# Altium schematic symbol library SCH-29227_Library.SchLib: 64 symbols
Pins are listed as number, name and electrical type; pins without a type are passive.

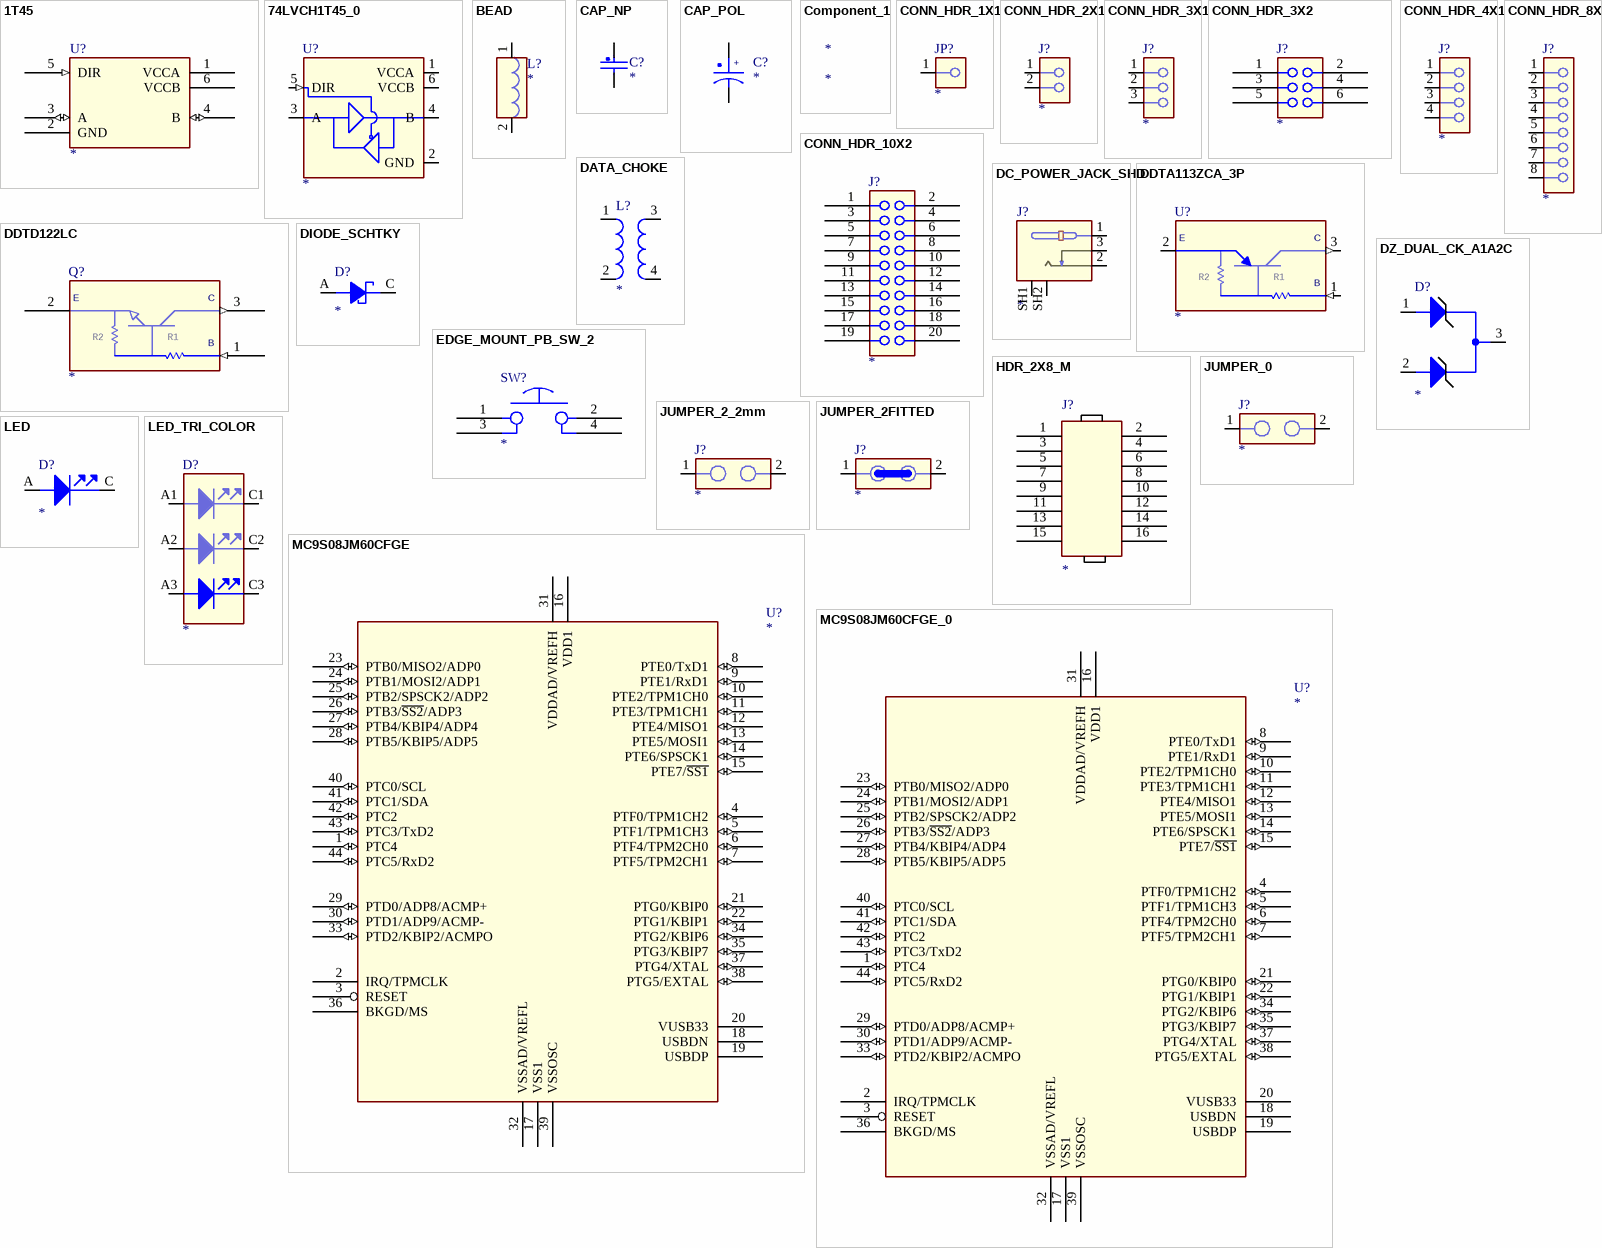
[diagram p0: symbols 1T45 to MC9S08JM60CFGE_0]

## 1T45
designator U?
CLASS: IC
pins: 1 VCCA (power), 2 GND (power), 3 A (io), 4 B (io), 5 DIR (in), 6 VCCB (power)

## 74LVCH1T45_0
designator U?
CLASS: IC
pins: 1 VCCA (power), 2 GND (power), 3 A (io), 4 B (io), 5 DIR (in), 6 VCCB (power)

## BEAD
designator L?
CLASS: DISCRETE
pins: 1, 2

## CAP_NP
designator C?
CLASS: DISCRETE
pins: 1, 2

## CAP_POL
designator C?
CLASS: DISCRETE
pins: 1, 2
text: +

## Component_1
designator *

## CONN_HDR_1X1
designator JP?
CLASS: IO
pins: 1

## CONN_HDR_2X1
designator J?
CLASS: IO
pins: 1, 2

## CONN_HDR_3X1
designator J?
CLASS: IO
pins: 1, 2, 3

## CONN_HDR_3X2
designator J?
CLASS: IO
pins: 1 A1, 2 B1, 3 A2, 4 B2, 5 A3, 6 B3

## CONN_HDR_4X1
designator J?
CLASS: IO
pins: 1, 2, 3, 4

## CONN_HDR_8X1
designator J?
CLASS: IO
pins: 1, 2, 3, 4, 5, 6, 7, 8

## CONN_HDR_10X2
designator J?
CLASS: IO
pins: 1, 2, 3, 4, 5, 6, 7, 8, 9, 10, 11, 12, 13, 14, 15, 16, 17, 18, 19, 20

## DATA_CHOKE
designator L?
CLASS: DISCRETE
pins: 1 IN1, 2 IN2, 3 OUT1, 4 OUT2

## DC_POWER_JACK_SHD
designator J?
CLASS: IO
pins: 1, 2, 3, SH1 SHIELD1, SH2 SHIELD2

## DDTA113ZCA_3P
designator U?
CLASS: IC
pins: 1 B (in), 2 E (power), 3 C (out)
text: R2; R1

## DDTD122LC
designator Q?
CLASS: IC
pins: 1 B (in), 2 E (power), 3 C (out)
text: R2; R1

## DIODE_SCHTKY
designator D?
CLASS: IC
pins: A, C

## DZ_DUAL_CK_A1A2C
designator D?
CLASS: IC
pins: 1 ANODE1, 2 ANODE2, 3 CATHODE

## EDGE_MOUNT_PB_SW_2
designator SW?
CLASS: IC
pins: 1, 2, 3, 4

## HDR_2X8_M
designator J?
CLASS: IO
pins: 1, 2, 3, 4, 5, 6, 7, 8, 9, 10, 11, 12, 13, 14, 15, 16

## JUMPER_0
designator J?
CLASS: IO
pins: 1, 2

## JUMPER_2_2mm
designator J?
CLASS: IO
pins: 1, 2

## JUMPER_2FITTED
designator J?
CLASS: IO
pins: 1, 2

## LED
designator D?
CLASS: IC
pins: A ANODE, C CATHODE

## LED_TRI_COLOR
designator D?
CLASS: IC
pins: A1 ANODE1, A2 ANODE2, A3 ANODE3, C1 CATHODE1, C2 CATHODE2, C3 CATHODE3

## MC9S08JM60CFGE
designator U?
CLASS: IC
pins: 1 PTC4 (io), 2 IRQ/TPMCLK, 3 RESET, 4 PTF0/TPM1CH2 (io), 5 PTF1/TPM1CH3 (io), 6 PTF4/TPM2CH0 (io), 7 PTF5/TPM2CH1 (io), 8 PTE0/TxD1 (io), 9 PTE1/RxD1 (io), 10 PTE2/TPM1CH0 (io), 11 PTE3/TPM1CH1 (io), 12 PTE4/MISO1 (io), 13 PTE5/MOSI1 (io), 14 PTE6/SPSCK1 (io), 15 PTE7/~{SS1} (io), 16 VDD1 (power), 17 VSS1 (power), 18 USBDN (power), 19 USBDP (power), 20 VUSB33 (power), 21 PTG0/KBIP0 (io), 22 PTG1/KBIP1 (io), 23 PTB0/MISO2/ADP0 (io), 24 PTB1/MOSI2/ADP1 (io), 25 PTB2/SPSCK2/ADP2 (io), 26 PTB3/~{SS2}/ADP3 (io), 27 PTB4/KBIP4/ADP4 (io), 28 PTB5/KBIP5/ADP5 (io), 29 PTD0/ADP8/ACMP+ (io), 30 PTD1/ADP9/ACMP- (io), 31 VDDAD/VREFH (power), 32 VSSAD/VREFL (power), 33 PTD2/KBIP2/ACMPO (io), 34 PTG2/KBIP6 (io), 35 PTG3/KBIP7 (io), 36 BKGD/MS, 37 PTG4/XTAL (io), 38 PTG5/EXTAL (io), 39 VSSOSC (power), 40 PTC0/SCL (io), 41 PTC1/SDA (io), 42 PTC2 (io), 43 PTC3/TxD2 (io), 44 PTC5/RxD2 (io)

## MC9S08JM60CFGE_0
designator U?
CLASS: IC
pins: 1 PTC4 (io), 2 IRQ/TPMCLK, 3 RESET, 4 PTF0/TPM1CH2 (io), 5 PTF1/TPM1CH3 (io), 6 PTF4/TPM2CH0 (io), 7 PTF5/TPM2CH1 (io), 8 PTE0/TxD1 (io), 9 PTE1/RxD1 (io), 10 PTE2/TPM1CH0 (io), 11 PTE3/TPM1CH1 (io), 12 PTE4/MISO1 (io), 13 PTE5/MOSI1 (io), 14 PTE6/SPSCK1 (io), 15 PTE7/~{SS1} (io), 16 VDD1 (power), 17 VSS1 (power), 18 USBDN (power), 19 USBDP (power), 20 VUSB33 (power), 21 PTG0/KBIP0 (io), 22 PTG1/KBIP1 (io), 23 PTB0/MISO2/ADP0 (io), 24 PTB1/MOSI2/ADP1 (io), 25 PTB2/SPSCK2/ADP2 (io), 26 PTB3/~{SS2}/ADP3 (io), 27 PTB4/KBIP4/ADP4 (io), 28 PTB5/KBIP5/ADP5 (io), 29 PTD0/ADP8/ACMP+ (io), 30 PTD1/ADP9/ACMP- (io), 31 VDDAD/VREFH (power), 32 VSSAD/VREFL (power), 33 PTD2/KBIP2/ACMPO (io), 34 PTG2/KBIP6 (io), 35 PTG3/KBIP7 (io), 36 BKGD/MS, 37 PTG4/XTAL (io), 38 PTG5/EXTAL (io), 39 VSSOSC (power), 40 PTC0/SCL (io), 41 PTC1/SDA (io), 42 PTC2 (io), 43 PTC3/TxD2 (io), 44 PTC5/RxD2 (io)

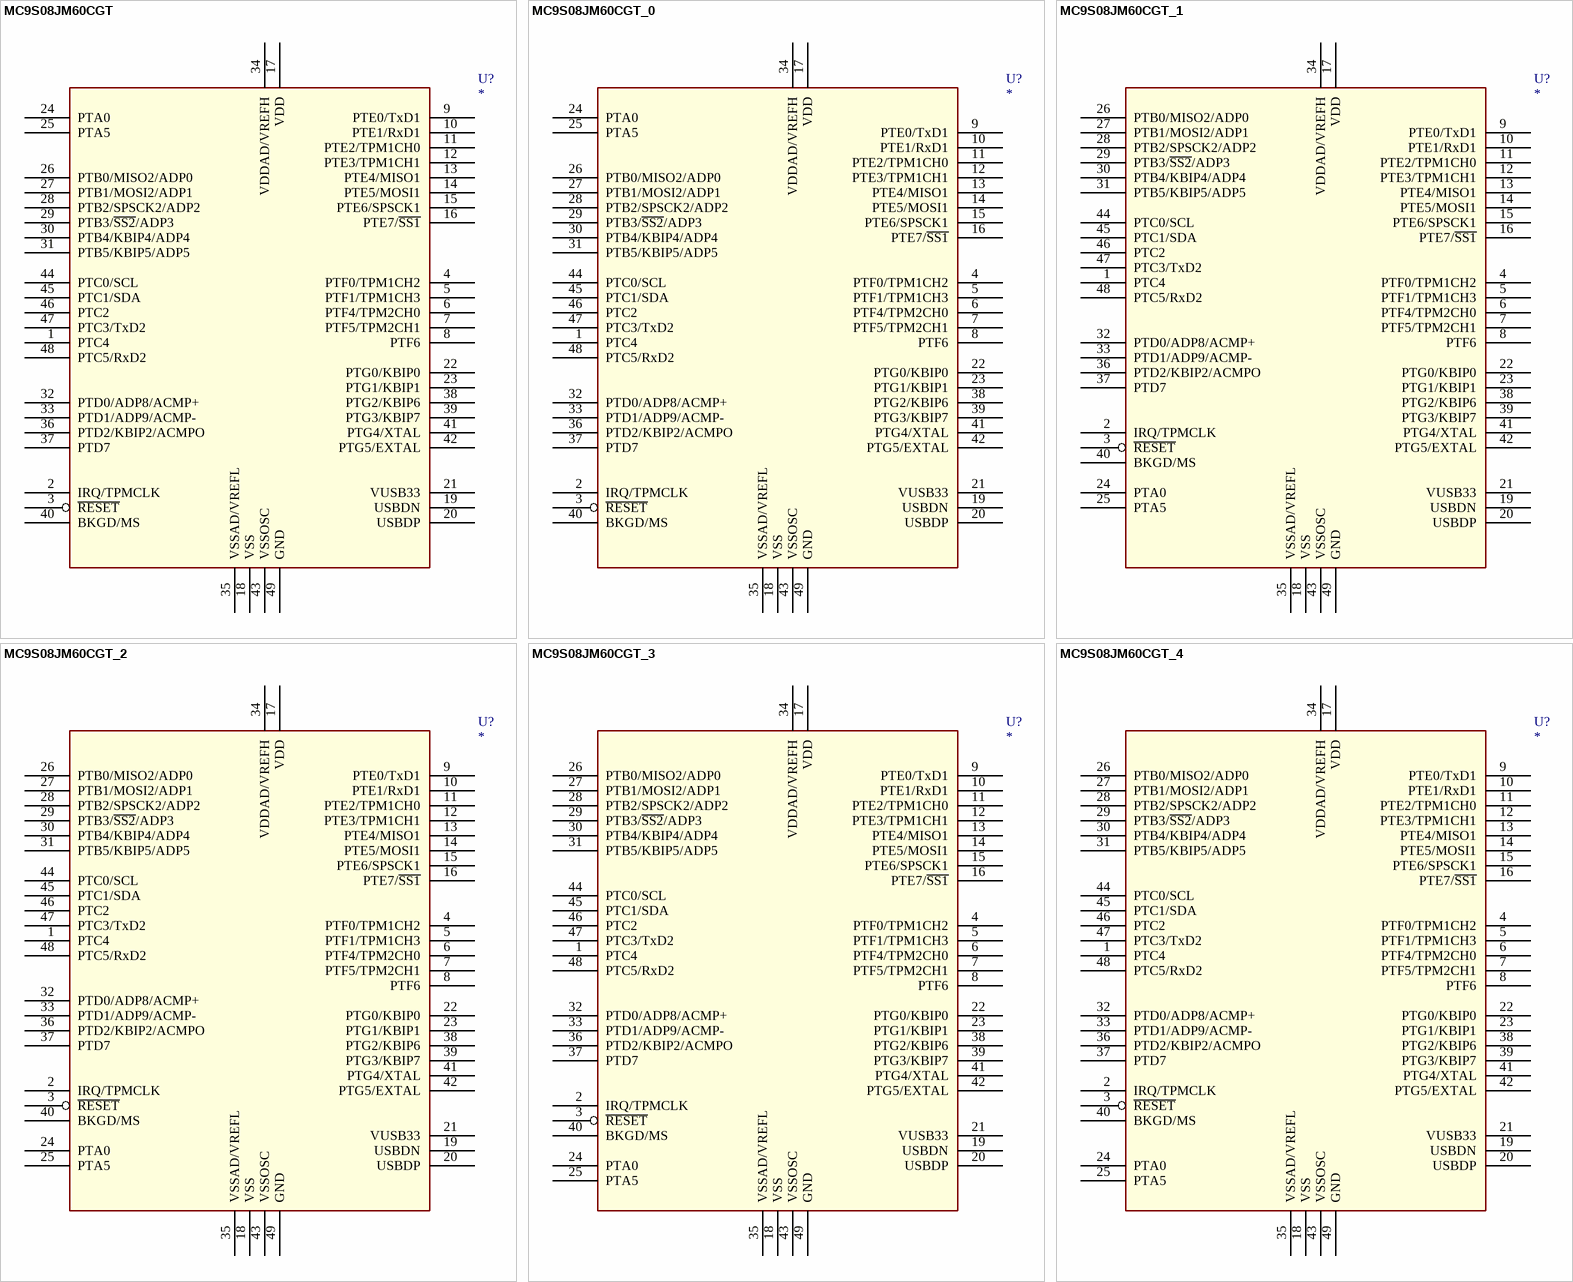
[diagram p1: symbols MC9S08JM60CGT to MC9S08JM60CGT_4]

## MC9S08JM60CGT
designator U?
CLASS: IC
pins: 1 PTC4, 2 IRQ/TPMCLK, 3 ~{RESET}, 4 PTF0/TPM1CH2, 5 PTF1/TPM1CH3, 6 PTF4/TPM2CH0, 7 PTF5/TPM2CH1, 8 PTF6, 9 PTE0/TxD1, 10 PTE1/RxD1, 11 PTE2/TPM1CH0, 12 PTE3/TPM1CH1, 13 PTE4/MISO1, 14 PTE5/MOSI1, 15 PTE6/SPSCK1, 16 PTE7/~{SS1}, 17 VDD (power), 18 VSS (power), 19 USBDN, 20 USBDP, 21 VUSB33, 22 PTG0/KBIP0, 23 PTG1/KBIP1, 24 PTA0, 25 PTA5, 26 PTB0/MISO2/ADP0, 27 PTB1/MOSI2/ADP1, 28 PTB2/SPSCK2/ADP2, 29 PTB3/~{SS2}/ADP3, 30 PTB4/KBIP4/ADP4, 31 PTB5/KBIP5/ADP5, 32 PTD0/ADP8/ACMP+, 33 PTD1/ADP9/ACMP-, 34 VDDAD/VREFH (power), 35 VSSAD/VREFL (power), 36 PTD2/KBIP2/ACMPO, 37 PTD7, 38 PTG2/KBIP6, 39 PTG3/KBIP7, 40 BKGD/MS, 41 PTG4/XTAL, 42 PTG5/EXTAL, 43 VSSOSC (power), 44 PTC0/SCL, 45 PTC1/SDA, 46 PTC2, 47 PTC3/TxD2, 48 PTC5/RxD2, 49 GND (power)

## MC9S08JM60CGT_0
designator U?
CLASS: IC
pins: 1 PTC4, 2 IRQ/TPMCLK, 3 ~{RESET}, 4 PTF0/TPM1CH2, 5 PTF1/TPM1CH3, 6 PTF4/TPM2CH0, 7 PTF5/TPM2CH1, 8 PTF6, 9 PTE0/TxD1, 10 PTE1/RxD1, 11 PTE2/TPM1CH0, 12 PTE3/TPM1CH1, 13 PTE4/MISO1, 14 PTE5/MOSI1, 15 PTE6/SPSCK1, 16 PTE7/~{SS1}, 17 VDD (power), 18 VSS (power), 19 USBDN, 20 USBDP, 21 VUSB33, 22 PTG0/KBIP0, 23 PTG1/KBIP1, 24 PTA0, 25 PTA5, 26 PTB0/MISO2/ADP0, 27 PTB1/MOSI2/ADP1, 28 PTB2/SPSCK2/ADP2, 29 PTB3/~{SS2}/ADP3, 30 PTB4/KBIP4/ADP4, 31 PTB5/KBIP5/ADP5, 32 PTD0/ADP8/ACMP+, 33 PTD1/ADP9/ACMP-, 34 VDDAD/VREFH (power), 35 VSSAD/VREFL (power), 36 PTD2/KBIP2/ACMPO, 37 PTD7, 38 PTG2/KBIP6, 39 PTG3/KBIP7, 40 BKGD/MS, 41 PTG4/XTAL, 42 PTG5/EXTAL, 43 VSSOSC (power), 44 PTC0/SCL, 45 PTC1/SDA, 46 PTC2, 47 PTC3/TxD2, 48 PTC5/RxD2, 49 GND (power)

## MC9S08JM60CGT_1
designator U?
CLASS: IC
pins: 1 PTC4, 2 IRQ/TPMCLK, 3 ~{RESET}, 4 PTF0/TPM1CH2, 5 PTF1/TPM1CH3, 6 PTF4/TPM2CH0, 7 PTF5/TPM2CH1, 8 PTF6, 9 PTE0/TxD1, 10 PTE1/RxD1, 11 PTE2/TPM1CH0, 12 PTE3/TPM1CH1, 13 PTE4/MISO1, 14 PTE5/MOSI1, 15 PTE6/SPSCK1, 16 PTE7/~{SS1}, 17 VDD (power), 18 VSS (power), 19 USBDN, 20 USBDP, 21 VUSB33, 22 PTG0/KBIP0, 23 PTG1/KBIP1, 24 PTA0, 25 PTA5, 26 PTB0/MISO2/ADP0, 27 PTB1/MOSI2/ADP1, 28 PTB2/SPSCK2/ADP2, 29 PTB3/~{SS2}/ADP3, 30 PTB4/KBIP4/ADP4, 31 PTB5/KBIP5/ADP5, 32 PTD0/ADP8/ACMP+, 33 PTD1/ADP9/ACMP-, 34 VDDAD/VREFH (power), 35 VSSAD/VREFL (power), 36 PTD2/KBIP2/ACMPO, 37 PTD7, 38 PTG2/KBIP6, 39 PTG3/KBIP7, 40 BKGD/MS, 41 PTG4/XTAL, 42 PTG5/EXTAL, 43 VSSOSC (power), 44 PTC0/SCL, 45 PTC1/SDA, 46 PTC2, 47 PTC3/TxD2, 48 PTC5/RxD2, 49 GND (power)

## MC9S08JM60CGT_2
designator U?
CLASS: IC
pins: 1 PTC4, 2 IRQ/TPMCLK, 3 ~{RESET}, 4 PTF0/TPM1CH2, 5 PTF1/TPM1CH3, 6 PTF4/TPM2CH0, 7 PTF5/TPM2CH1, 8 PTF6, 9 PTE0/TxD1, 10 PTE1/RxD1, 11 PTE2/TPM1CH0, 12 PTE3/TPM1CH1, 13 PTE4/MISO1, 14 PTE5/MOSI1, 15 PTE6/SPSCK1, 16 PTE7/~{SS1}, 17 VDD (power), 18 VSS (power), 19 USBDN, 20 USBDP, 21 VUSB33, 22 PTG0/KBIP0, 23 PTG1/KBIP1, 24 PTA0, 25 PTA5, 26 PTB0/MISO2/ADP0, 27 PTB1/MOSI2/ADP1, 28 PTB2/SPSCK2/ADP2, 29 PTB3/~{SS2}/ADP3, 30 PTB4/KBIP4/ADP4, 31 PTB5/KBIP5/ADP5, 32 PTD0/ADP8/ACMP+, 33 PTD1/ADP9/ACMP-, 34 VDDAD/VREFH (power), 35 VSSAD/VREFL (power), 36 PTD2/KBIP2/ACMPO, 37 PTD7, 38 PTG2/KBIP6, 39 PTG3/KBIP7, 40 BKGD/MS, 41 PTG4/XTAL, 42 PTG5/EXTAL, 43 VSSOSC (power), 44 PTC0/SCL, 45 PTC1/SDA, 46 PTC2, 47 PTC3/TxD2, 48 PTC5/RxD2, 49 GND (power)

## MC9S08JM60CGT_3
designator U?
CLASS: IC
pins: 1 PTC4, 2 IRQ/TPMCLK, 3 ~{RESET}, 4 PTF0/TPM1CH2, 5 PTF1/TPM1CH3, 6 PTF4/TPM2CH0, 7 PTF5/TPM2CH1, 8 PTF6, 9 PTE0/TxD1, 10 PTE1/RxD1, 11 PTE2/TPM1CH0, 12 PTE3/TPM1CH1, 13 PTE4/MISO1, 14 PTE5/MOSI1, 15 PTE6/SPSCK1, 16 PTE7/~{SS1}, 17 VDD (power), 18 VSS (power), 19 USBDN, 20 USBDP, 21 VUSB33, 22 PTG0/KBIP0, 23 PTG1/KBIP1, 24 PTA0, 25 PTA5, 26 PTB0/MISO2/ADP0, 27 PTB1/MOSI2/ADP1, 28 PTB2/SPSCK2/ADP2, 29 PTB3/~{SS2}/ADP3, 30 PTB4/KBIP4/ADP4, 31 PTB5/KBIP5/ADP5, 32 PTD0/ADP8/ACMP+, 33 PTD1/ADP9/ACMP-, 34 VDDAD/VREFH (power), 35 VSSAD/VREFL (power), 36 PTD2/KBIP2/ACMPO, 37 PTD7, 38 PTG2/KBIP6, 39 PTG3/KBIP7, 40 BKGD/MS, 41 PTG4/XTAL, 42 PTG5/EXTAL, 43 VSSOSC (power), 44 PTC0/SCL, 45 PTC1/SDA, 46 PTC2, 47 PTC3/TxD2, 48 PTC5/RxD2, 49 GND (power)

## MC9S08JM60CGT_4
designator U?
CLASS: IC
pins: 1 PTC4, 2 IRQ/TPMCLK, 3 ~{RESET}, 4 PTF0/TPM1CH2, 5 PTF1/TPM1CH3, 6 PTF4/TPM2CH0, 7 PTF5/TPM2CH1, 8 PTF6, 9 PTE0/TxD1, 10 PTE1/RxD1, 11 PTE2/TPM1CH0, 12 PTE3/TPM1CH1, 13 PTE4/MISO1, 14 PTE5/MOSI1, 15 PTE6/SPSCK1, 16 PTE7/~{SS1}, 17 VDD (power), 18 VSS (power), 19 USBDN, 20 USBDP, 21 VUSB33, 22 PTG0/KBIP0, 23 PTG1/KBIP1, 24 PTA0, 25 PTA5, 26 PTB0/MISO2/ADP0, 27 PTB1/MOSI2/ADP1, 28 PTB2/SPSCK2/ADP2, 29 PTB3/~{SS2}/ADP3, 30 PTB4/KBIP4/ADP4, 31 PTB5/KBIP5/ADP5, 32 PTD0/ADP8/ACMP+, 33 PTD1/ADP9/ACMP-, 34 VDDAD/VREFH (power), 35 VSSAD/VREFL (power), 36 PTD2/KBIP2/ACMPO, 37 PTD7, 38 PTG2/KBIP6, 39 PTG3/KBIP7, 40 BKGD/MS, 41 PTG4/XTAL, 42 PTG5/EXTAL, 43 VSSOSC (power), 44 PTC0/SCL, 45 PTC1/SDA, 46 PTC2, 47 PTC3/TxD2, 48 PTC5/RxD2, 49 GND (power)

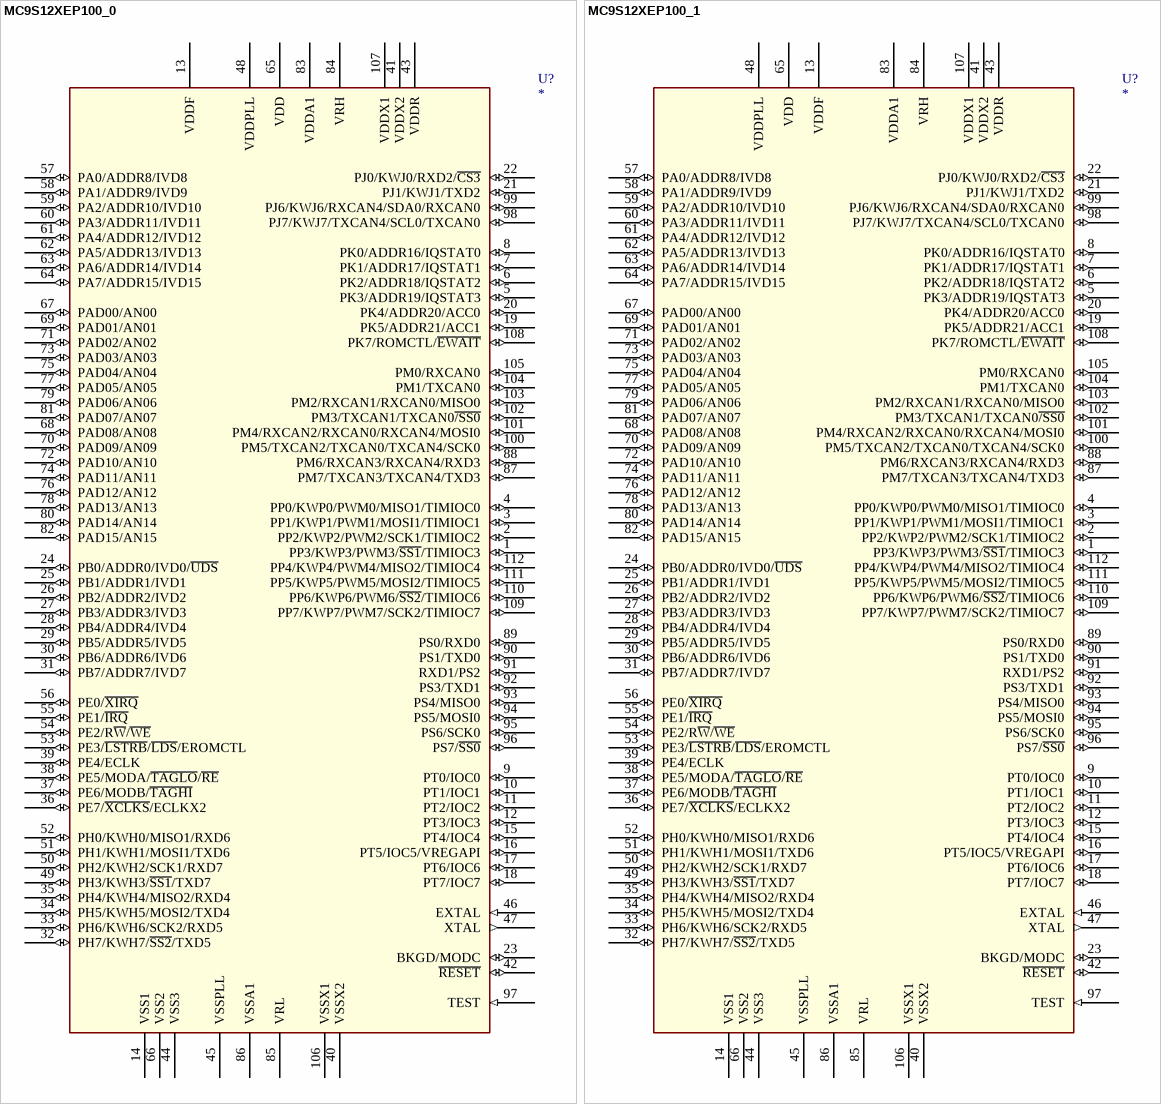
[diagram p2: symbols MC9S12XEP100_0 to MC9S12XEP100_1]

## MC9S12XEP100_0
designator U?
CLASS: IC
pins: 1 PP3/KWP3/PWM3/~{SS1}/TIMIOC3 (io), 2 PP2/KWP2/PWM2/SCK1/TIMIOC2 (io), 3 PP1/KWP1/PWM1/MOSI1/TIMIOC1 (io), 4 PP0/KWP0/PWM0/MISO1/TIMIOC0 (io), 5 PK3/ADDR19/IQSTAT3 (io), 6 PK2/ADDR18/IQSTAT2 (io), 7 PK1/ADDR17/IQSTAT1 (io), 8 PK0/ADDR16/IQSTAT0 (io), 9 PT0/IOC0 (io), 10 PT1/IOC1 (io), 11 PT2/IOC2 (io), 12 PT3/IOC3 (io), 13 VDDF (power), 14 VSS1 (power), 15 PT4/IOC4 (io), 16 PT5/IOC5/VREGAPI (io), 17 PT6/IOC6 (io), 18 PT7/IOC7 (io), 19 PK5/ADDR21/ACC1 (io), 20 PK4/ADDR20/ACC0 (io), 21 PJ1/KWJ1/TXD2 (io), 22 PJ0/KWJ0/RXD2/~{CS3} (io), 23 BKGD/MODC (io), 24 PB0/ADDR0/IVD0/~{UDS} (io), 25 PB1/ADDR1/IVD1 (io), 26 PB2/ADDR2/IVD2 (io), 27 PB3/ADDR3/IVD3 (io), 28 PB4/ADDR4/IVD4 (io), 29 PB5/ADDR5/IVD5 (io), 30 PB6/ADDR6/IVD6 (io), 31 PB7/ADDR7/IVD7 (io), 32 PH7/KWH7/~{SS2}/TXD5 (io), 33 PH6/KWH6/SCK2/RXD5 (io), 34 PH5/KWH5/MOSI2/TXD4 (io), 35 PH4/KWH4/MISO2/RXD4 (io), 36 PE7/~{XCLKS}/ECLKX2 (io), 37 PE6/MODB/~{TAGHI} (io), 38 PE5/MODA/~{TAGLO}/~{RE} (io), 39 PE4/ECLK (io), 40 VSSX2 (power), 41 VDDX2 (power), 42 ~{RESET} (io), 43 VDDR (power), 44 VSS3 (power), 45 VSSPLL (power), 46 EXTAL (in), 47 XTAL (out), 48 VDDPLL (power), 49 PH3/KWH3/~{SS1}/TXD7 (io), 50 PH2/KWH2/SCK1/RXD7 (io), 51 PH1/KWH1/MOSI1/TXD6 (io), 52 PH0/KWH0/MISO1/RXD6 (io), 53 PE3/~{LSTRB}/~{LDS}/EROMCTL (io), 54 PE2/R~{W}/~{WE} (io), 55 PE1/~{IRQ} (io), 56 PE0/~{XIRQ} (io), 57 PA0/ADDR8/IVD8 (io), 58 PA1/ADDR9/IVD9 (io), 59 PA2/ADDR10/IVD10 (io), 60 PA3/ADDR11/IVD11 (io), 61 PA4/ADDR12/IVD12 (io), 62 PA5/ADDR13/IVD13 (io), 63 PA6/ADDR14/IVD14 (io), 64 PA7/ADDR15/IVD15 (io), 65 VDD (power), 66 VSS2 (power), 67 PAD00/AN00 (io), 68 PAD08/AN08 (io), 69 PAD01/AN01 (io), 70 PAD09/AN09 (io), 71 PAD02/AN02 (io), 72 PAD10/AN10 (io), 73 PAD03/AN03 (io), 74 PAD11/AN11 (io), 75 PAD04/AN04 (io), 76 PAD12/AN12 (io), 77 PAD05/AN05 (io), 78 PAD13/AN13 (io), 79 PAD06/AN06 (io), 80 PAD14/AN14 (io), 81 PAD07/AN07 (io), 82 PAD15/AN15 (io), 83 VDDA1 (power), 84 VRH (power), 85 VRL (power), 86 VSSA1 (power), 87 PM7/TXCAN3/TXCAN4/TXD3 (io), 88 PM6/RXCAN3/RXCAN4/RXD3 (io), 89 PS0/RXD0 (io), 90 PS1/TXD0 (io), 91 RXD1/PS2 (io), 92 PS3/TXD1 (io), 93 PS4/MISO0 (io), 94 PS5/MOSI0 (io), 95 PS6/SCK0 (io), 96 PS7/~{SS0} (io), 97 TEST (in), 98 PJ7/KWJ7/TXCAN4/SCL0/TXCAN0 (io), 99 PJ6/KWJ6/RXCAN4/SDA0/RXCAN0 (io), 100 PM5/TXCAN2/TXCAN0/TXCAN4/SCK0 (io), 101 PM4/RXCAN2/RXCAN0/RXCAN4/MOSI0 (io), 102 PM3/TXCAN1/TXCAN0~{/SS0} (io), 103 PM2/RXCAN1/RXCAN0/MISO0 (io), 104 PM1/TXCAN0 (io), 105 PM0/RXCAN0 (io), 106 VSSX1 (power), 107 VDDX1 (power), 108 PK7/ROMCTL/~{EWAIT} (io), 109 PP7/KWP7/PWM7/SCK2/TIMIOC7 (io), 110 PP6/KWP6/PWM6/~{SS2}/TIMIOC6 (io), 111 PP5/KWP5/PWM5/MOSI2/TIMIOC5 (io), 112 PP4/KWP4/PWM4/MISO2/TIMIOC4 (io)

## MC9S12XEP100_1
designator U?
CLASS: IC
pins: 1 PP3/KWP3/PWM3/~{SS1}/TIMIOC3 (io), 2 PP2/KWP2/PWM2/SCK1/TIMIOC2 (io), 3 PP1/KWP1/PWM1/MOSI1/TIMIOC1 (io), 4 PP0/KWP0/PWM0/MISO1/TIMIOC0 (io), 5 PK3/ADDR19/IQSTAT3 (io), 6 PK2/ADDR18/IQSTAT2 (io), 7 PK1/ADDR17/IQSTAT1 (io), 8 PK0/ADDR16/IQSTAT0 (io), 9 PT0/IOC0 (io), 10 PT1/IOC1 (io), 11 PT2/IOC2 (io), 12 PT3/IOC3 (io), 13 VDDF (power), 14 VSS1 (power), 15 PT4/IOC4 (io), 16 PT5/IOC5/VREGAPI (io), 17 PT6/IOC6 (io), 18 PT7/IOC7 (io), 19 PK5/ADDR21/ACC1 (io), 20 PK4/ADDR20/ACC0 (io), 21 PJ1/KWJ1/TXD2 (io), 22 PJ0/KWJ0/RXD2/~{CS3} (io), 23 BKGD/MODC (io), 24 PB0/ADDR0/IVD0/~{UDS} (io), 25 PB1/ADDR1/IVD1 (io), 26 PB2/ADDR2/IVD2 (io), 27 PB3/ADDR3/IVD3 (io), 28 PB4/ADDR4/IVD4 (io), 29 PB5/ADDR5/IVD5 (io), 30 PB6/ADDR6/IVD6 (io), 31 PB7/ADDR7/IVD7 (io), 32 PH7/KWH7/~{SS2}/TXD5 (io), 33 PH6/KWH6/SCK2/RXD5 (io), 34 PH5/KWH5/MOSI2/TXD4 (io), 35 PH4/KWH4/MISO2/RXD4 (io), 36 PE7/~{XCLKS}/ECLKX2 (io), 37 PE6/MODB/~{TAGHI} (io), 38 PE5/MODA/~{TAGLO}/~{RE} (io), 39 PE4/ECLK (io), 40 VSSX2 (power), 41 VDDX2 (power), 42 ~{RESET} (io), 43 VDDR (power), 44 VSS3 (power), 45 VSSPLL (power), 46 EXTAL (in), 47 XTAL (out), 48 VDDPLL (power), 49 PH3/KWH3/~{SS1}/TXD7 (io), 50 PH2/KWH2/SCK1/RXD7 (io), 51 PH1/KWH1/MOSI1/TXD6 (io), 52 PH0/KWH0/MISO1/RXD6 (io), 53 PE3/~{LSTRB}/~{LDS}/EROMCTL (io), 54 PE2/R~{W}/~{WE} (io), 55 PE1/~{IRQ} (io), 56 PE0/~{XIRQ} (io), 57 PA0/ADDR8/IVD8 (io), 58 PA1/ADDR9/IVD9 (io), 59 PA2/ADDR10/IVD10 (io), 60 PA3/ADDR11/IVD11 (io), 61 PA4/ADDR12/IVD12 (io), 62 PA5/ADDR13/IVD13 (io), 63 PA6/ADDR14/IVD14 (io), 64 PA7/ADDR15/IVD15 (io), 65 VDD (power), 66 VSS2 (power), 67 PAD00/AN00 (io), 68 PAD08/AN08 (io), 69 PAD01/AN01 (io), 70 PAD09/AN09 (io), 71 PAD02/AN02 (io), 72 PAD10/AN10 (io), 73 PAD03/AN03 (io), 74 PAD11/AN11 (io), 75 PAD04/AN04 (io), 76 PAD12/AN12 (io), 77 PAD05/AN05 (io), 78 PAD13/AN13 (io), 79 PAD06/AN06 (io), 80 PAD14/AN14 (io), 81 PAD07/AN07 (io), 82 PAD15/AN15 (io), 83 VDDA1 (power), 84 VRH (power), 85 VRL (power), 86 VSSA1 (power), 87 PM7/TXCAN3/TXCAN4/TXD3 (io), 88 PM6/RXCAN3/RXCAN4/RXD3 (io), 89 PS0/RXD0 (io), 90 PS1/TXD0 (io), 91 RXD1/PS2 (io), 92 PS3/TXD1 (io), 93 PS4/MISO0 (io), 94 PS5/MOSI0 (io), 95 PS6/SCK0 (io), 96 PS7/~{SS0} (io), 97 TEST (in), 98 PJ7/KWJ7/TXCAN4/SCL0/TXCAN0 (io), 99 PJ6/KWJ6/RXCAN4/SDA0/RXCAN0 (io), 100 PM5/TXCAN2/TXCAN0/TXCAN4/SCK0 (io), 101 PM4/RXCAN2/RXCAN0/RXCAN4/MOSI0 (io), 102 PM3/TXCAN1/TXCAN0~{/SS0} (io), 103 PM2/RXCAN1/RXCAN0/MISO0 (io), 104 PM1/TXCAN0 (io), 105 PM0/RXCAN0 (io), 106 VSSX1 (power), 107 VDDX1 (power), 108 PK7/ROMCTL/~{EWAIT} (io), 109 PP7/KWP7/PWM7/SCK2/TIMIOC7 (io), 110 PP6/KWP6/PWM6/~{SS2}/TIMIOC6 (io), 111 PP5/KWP5/PWM5/MOSI2/TIMIOC5 (io), 112 PP4/KWP4/PWM4/MISO2/TIMIOC4 (io)

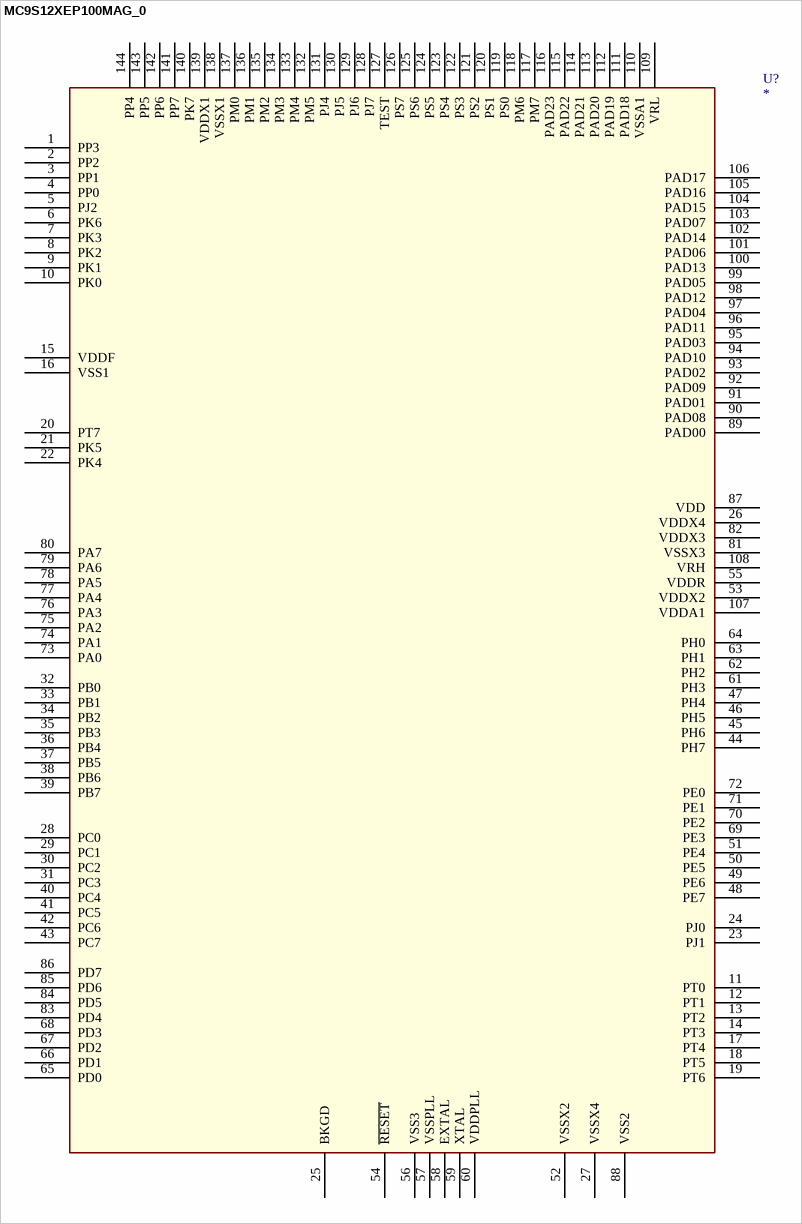
[diagram p3: symbol MC9S12XEP100MAG_0]

## MC9S12XEP100MAG_0
designator U?
CLASS: IC
pins: 1 PP3, 2 PP2, 3 PP1, 4 PP0, 5 PJ2, 6 PK6, 7 PK3, 8 PK2, 9 PK1, 10 PK0, 11 PT0, 12 PT1, 13 PT2, 14 PT3, 15 VDDF, 16 VSS1, 17 PT4, 18 PT5, 19 PT6, 20 PT7, 21 PK5, 22 PK4, 23 PJ1, 24 PJ0, 25 BKGD, 26 VDDX4, 27 VSSX4, 28 PC0, 29 PC1, 30 PC2, 31 PC3, 32 PB0, 33 PB1, 34 PB2, 35 PB3, 36 PB4, 37 PB5, 38 PB6, 39 PB7, 40 PC4, 41 PC5, 42 PC6, 43 PC7, 44 PH7, 45 PH6, 46 PH5, 47 PH4, 48 PE7, 49 PE6, 50 PE5, 51 PE4, 52 VSSX2, 53 VDDX2, 54 ~{RESET}, 55 VDDR, 56 VSS3, 57 VSSPLL, 58 EXTAL, 59 XTAL, 60 VDDPLL, 61 PH3, 62 PH2, 63 PH1, 64 PH0, 65 PD0, 66 PD1, 67 PD2, 68 PD3, 69 PE3, 70 PE2, 71 PE1, 72 PE0, 73 PA0, 74 PA1, 75 PA2, 76 PA3, 77 PA4, 78 PA5, 79 PA6, 80 PA7, 81 VSSX3, 82 VDDX3, 83 PD4, 84 PD5, 85 PD6, 86 PD7, 87 VDD, 88 VSS2, 89 PAD00, 90 PAD08, 91 PAD01, 92 PAD09, 93 PAD02, 94 PAD10, 95 PAD03, 96 PAD11, 97 PAD04, 98 PAD12, 99 PAD05, 100 PAD13, 101 PAD06, 102 PAD14, 103 PAD07, 104 PAD15, 105 PAD16, 106 PAD17, 107 VDDA1, 108 VRH, 109 VRL, 110 VSSA1, 111 PAD18, 112 PAD19, 113 PAD20, 114 PAD21, 115 PAD22, 116 PAD23, 117 PM7, 118 PM6, 119 PS0, 120 PS1, 121 PS2, 122 PS3, 123 PS4, 124 PS5, 125 PS6, 126 PS7, 127 TEST, 128 PJ7, 129 PJ6, 130 PJ5, 131 PJ4, 132 PM5, 133 PM4, 134 PM3, 135 PM2, 136 PM1, 137 PM0, 138 VSSX1, 139 VDDX1, 140 PK7, 141 PP7, 142 PP6, 143 PP5, 144 PP4

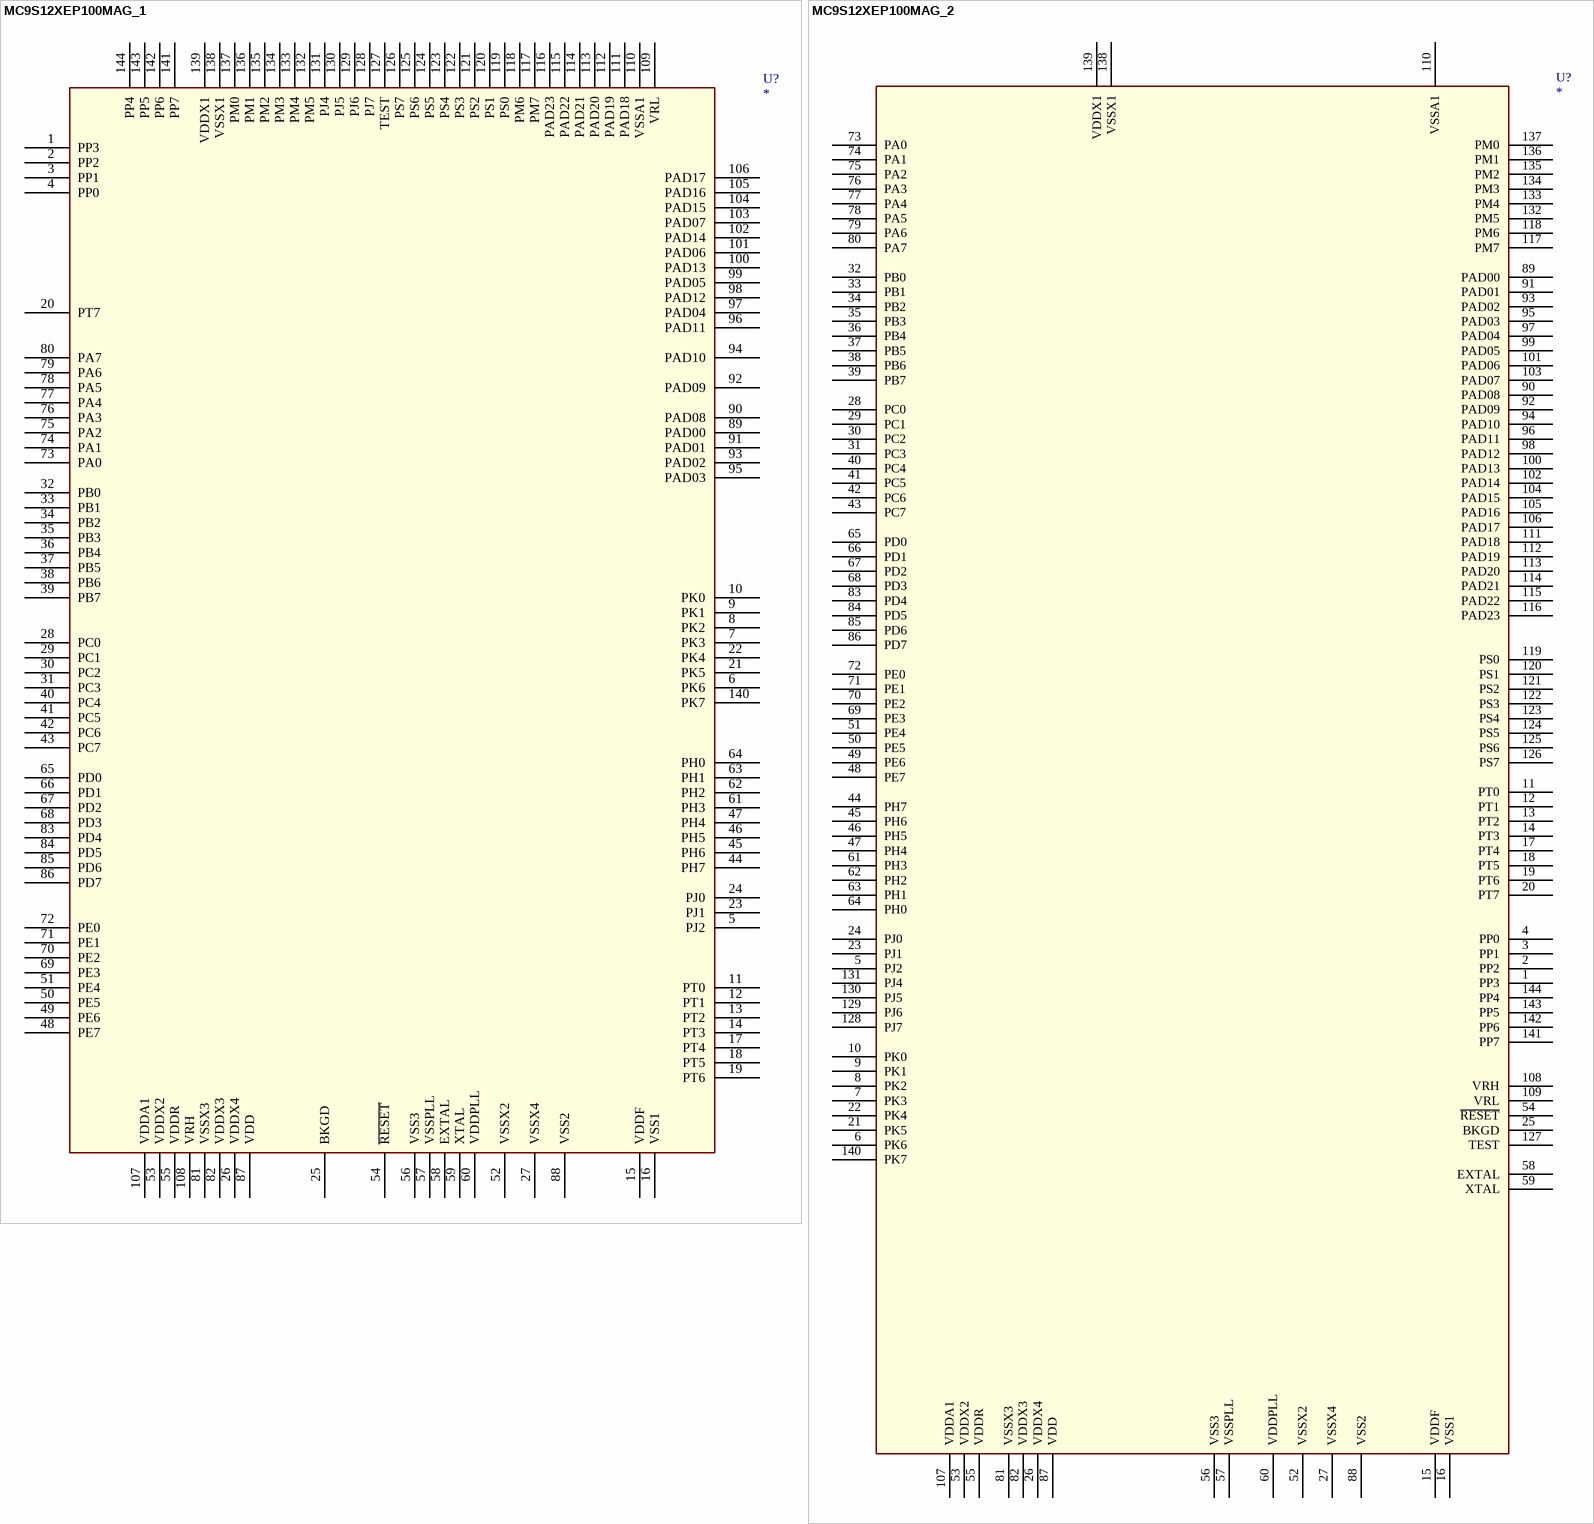
[diagram p4: symbols MC9S12XEP100MAG_1 to MC9S12XEP100MAG_2]

## MC9S12XEP100MAG_1
designator U?
CLASS: IC
pins: 1 PP3, 2 PP2, 3 PP1, 4 PP0, 5 PJ2, 6 PK6, 7 PK3, 8 PK2, 9 PK1, 10 PK0, 11 PT0, 12 PT1, 13 PT2, 14 PT3, 15 VDDF, 16 VSS1, 17 PT4, 18 PT5, 19 PT6, 20 PT7, 21 PK5, 22 PK4, 23 PJ1, 24 PJ0, 25 BKGD, 26 VDDX4, 27 VSSX4, 28 PC0, 29 PC1, 30 PC2, 31 PC3, 32 PB0, 33 PB1, 34 PB2, 35 PB3, 36 PB4, 37 PB5, 38 PB6, 39 PB7, 40 PC4, 41 PC5, 42 PC6, 43 PC7, 44 PH7, 45 PH6, 46 PH5, 47 PH4, 48 PE7, 49 PE6, 50 PE5, 51 PE4, 52 VSSX2, 53 VDDX2, 54 ~{RESET}, 55 VDDR, 56 VSS3, 57 VSSPLL, 58 EXTAL, 59 XTAL, 60 VDDPLL, 61 PH3, 62 PH2, 63 PH1, 64 PH0, 65 PD0, 66 PD1, 67 PD2, 68 PD3, 69 PE3, 70 PE2, 71 PE1, 72 PE0, 73 PA0, 74 PA1, 75 PA2, 76 PA3, 77 PA4, 78 PA5, 79 PA6, 80 PA7, 81 VSSX3, 82 VDDX3, 83 PD4, 84 PD5, 85 PD6, 86 PD7, 87 VDD, 88 VSS2, 89 PAD00, 90 PAD08, 91 PAD01, 92 PAD09, 93 PAD02, 94 PAD10, 95 PAD03, 96 PAD11, 97 PAD04, 98 PAD12, 99 PAD05, 100 PAD13, 101 PAD06, 102 PAD14, 103 PAD07, 104 PAD15, 105 PAD16, 106 PAD17, 107 VDDA1, 108 VRH, 109 VRL, 110 VSSA1, 111 PAD18, 112 PAD19, 113 PAD20, 114 PAD21, 115 PAD22, 116 PAD23, 117 PM7, 118 PM6, 119 PS0, 120 PS1, 121 PS2, 122 PS3, 123 PS4, 124 PS5, 125 PS6, 126 PS7, 127 TEST, 128 PJ7, 129 PJ6, 130 PJ5, 131 PJ4, 132 PM5, 133 PM4, 134 PM3, 135 PM2, 136 PM1, 137 PM0, 138 VSSX1, 139 VDDX1, 140 PK7, 141 PP7, 142 PP6, 143 PP5, 144 PP4

## MC9S12XEP100MAG_2
designator U?
CLASS: IC
pins: 1 PP3, 2 PP2, 3 PP1, 4 PP0, 5 PJ2, 6 PK6, 7 PK3, 8 PK2, 9 PK1, 10 PK0, 11 PT0, 12 PT1, 13 PT2, 14 PT3, 15 VDDF, 16 VSS1, 17 PT4, 18 PT5, 19 PT6, 20 PT7, 21 PK5, 22 PK4, 23 PJ1, 24 PJ0, 25 BKGD, 26 VDDX4, 27 VSSX4, 28 PC0, 29 PC1, 30 PC2, 31 PC3, 32 PB0, 33 PB1, 34 PB2, 35 PB3, 36 PB4, 37 PB5, 38 PB6, 39 PB7, 40 PC4, 41 PC5, 42 PC6, 43 PC7, 44 PH7, 45 PH6, 46 PH5, 47 PH4, 48 PE7, 49 PE6, 50 PE5, 51 PE4, 52 VSSX2, 53 VDDX2, 54 ~{RESET}, 55 VDDR, 56 VSS3, 57 VSSPLL, 58 EXTAL, 59 XTAL, 60 VDDPLL, 61 PH3, 62 PH2, 63 PH1, 64 PH0, 65 PD0, 66 PD1, 67 PD2, 68 PD3, 69 PE3, 70 PE2, 71 PE1, 72 PE0, 73 PA0, 74 PA1, 75 PA2, 76 PA3, 77 PA4, 78 PA5, 79 PA6, 80 PA7, 81 VSSX3, 82 VDDX3, 83 PD4, 84 PD5, 85 PD6, 86 PD7, 87 VDD, 88 VSS2, 89 PAD00, 90 PAD08, 91 PAD01, 92 PAD09, 93 PAD02, 94 PAD10, 95 PAD03, 96 PAD11, 97 PAD04, 98 PAD12, 99 PAD05, 100 PAD13, 101 PAD06, 102 PAD14, 103 PAD07, 104 PAD15, 105 PAD16, 106 PAD17, 107 VDDA1, 108 VRH, 109 VRL, 110 VSSA1, 111 PAD18, 112 PAD19, 113 PAD20, 114 PAD21, 115 PAD22, 116 PAD23, 117 PM7, 118 PM6, 119 PS0, 120 PS1, 121 PS2, 122 PS3, 123 PS4, 124 PS5, 125 PS6, 126 PS7, 127 TEST, 128 PJ7, 129 PJ6, 130 PJ5, 131 PJ4, 132 PM5, 133 PM4, 134 PM3, 135 PM2, 136 PM1, 137 PM0, 138 VSSX1, 139 VDDX1, 140 PK7, 141 PP7, 142 PP6, 143 PP5, 144 PP4

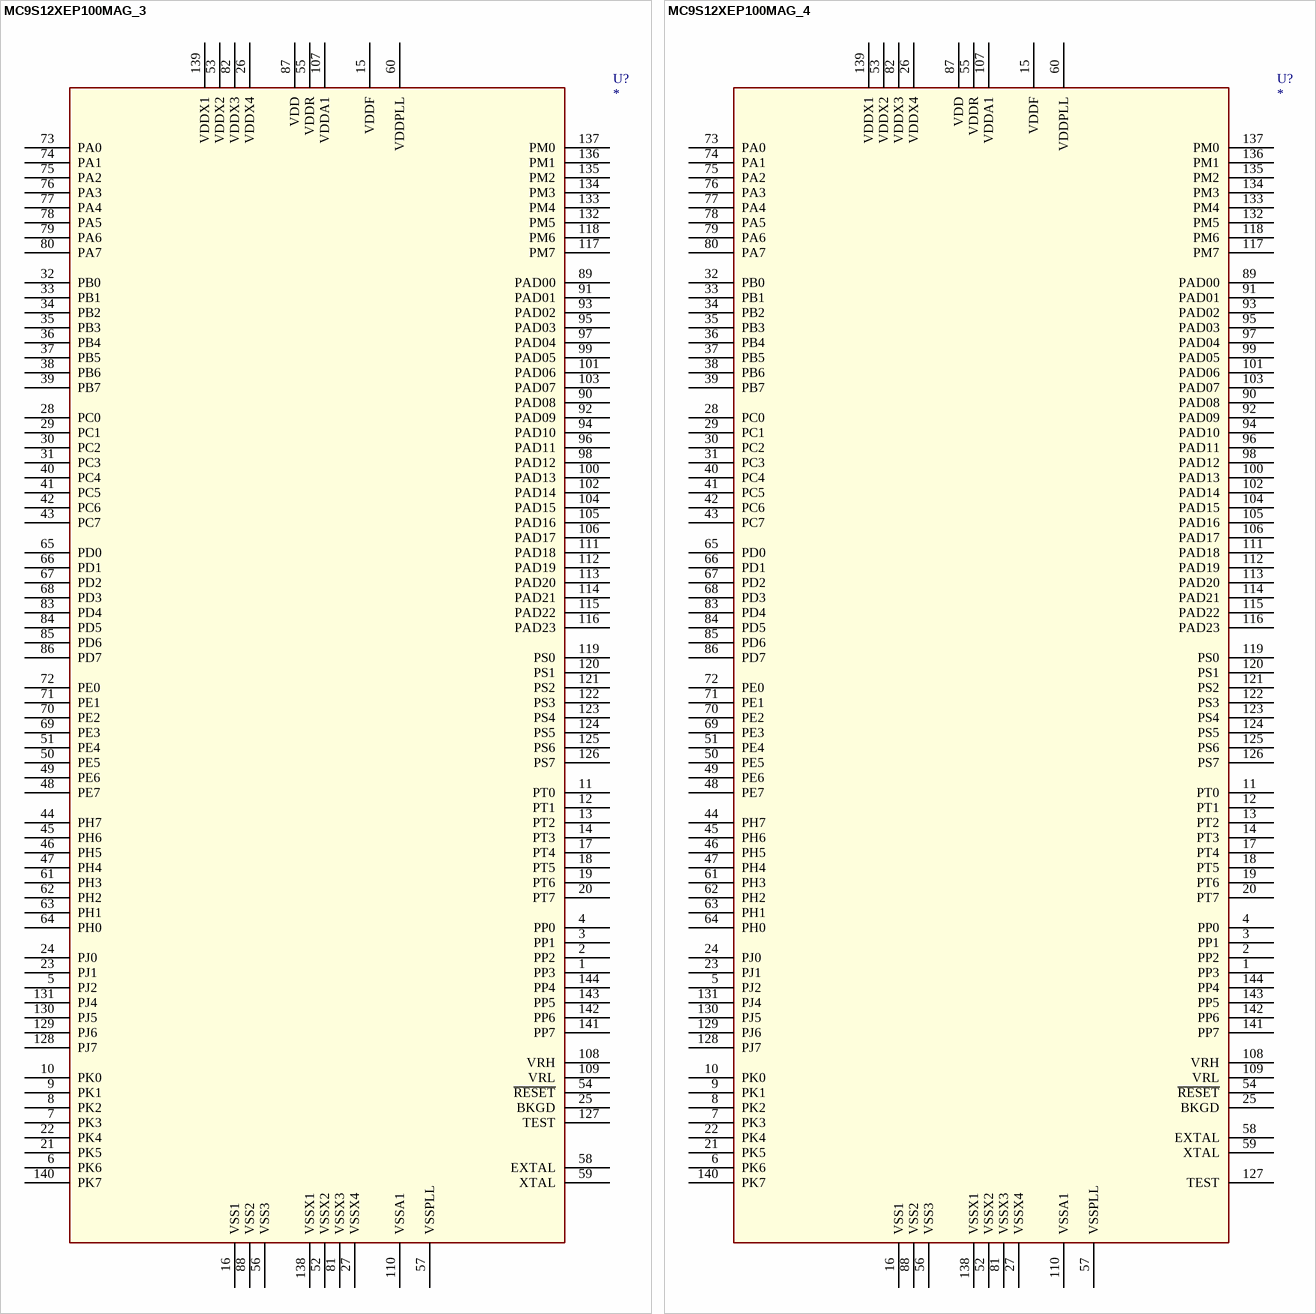
[diagram p5: symbols MC9S12XEP100MAG_3 to MC9S12XEP100MAG_4]

## MC9S12XEP100MAG_3
designator U?
CLASS: IC
pins: 1 PP3, 2 PP2, 3 PP1, 4 PP0, 5 PJ2, 6 PK6, 7 PK3, 8 PK2, 9 PK1, 10 PK0, 11 PT0, 12 PT1, 13 PT2, 14 PT3, 15 VDDF, 16 VSS1, 17 PT4, 18 PT5, 19 PT6, 20 PT7, 21 PK5, 22 PK4, 23 PJ1, 24 PJ0, 25 BKGD, 26 VDDX4, 27 VSSX4, 28 PC0, 29 PC1, 30 PC2, 31 PC3, 32 PB0, 33 PB1, 34 PB2, 35 PB3, 36 PB4, 37 PB5, 38 PB6, 39 PB7, 40 PC4, 41 PC5, 42 PC6, 43 PC7, 44 PH7, 45 PH6, 46 PH5, 47 PH4, 48 PE7, 49 PE6, 50 PE5, 51 PE4, 52 VSSX2, 53 VDDX2, 54 ~{RESET}, 55 VDDR, 56 VSS3, 57 VSSPLL, 58 EXTAL, 59 XTAL, 60 VDDPLL, 61 PH3, 62 PH2, 63 PH1, 64 PH0, 65 PD0, 66 PD1, 67 PD2, 68 PD3, 69 PE3, 70 PE2, 71 PE1, 72 PE0, 73 PA0, 74 PA1, 75 PA2, 76 PA3, 77 PA4, 78 PA5, 79 PA6, 80 PA7, 81 VSSX3, 82 VDDX3, 83 PD4, 84 PD5, 85 PD6, 86 PD7, 87 VDD, 88 VSS2, 89 PAD00, 90 PAD08, 91 PAD01, 92 PAD09, 93 PAD02, 94 PAD10, 95 PAD03, 96 PAD11, 97 PAD04, 98 PAD12, 99 PAD05, 100 PAD13, 101 PAD06, 102 PAD14, 103 PAD07, 104 PAD15, 105 PAD16, 106 PAD17, 107 VDDA1, 108 VRH, 109 VRL, 110 VSSA1, 111 PAD18, 112 PAD19, 113 PAD20, 114 PAD21, 115 PAD22, 116 PAD23, 117 PM7, 118 PM6, 119 PS0, 120 PS1, 121 PS2, 122 PS3, 123 PS4, 124 PS5, 125 PS6, 126 PS7, 127 TEST, 128 PJ7, 129 PJ6, 130 PJ5, 131 PJ4, 132 PM5, 133 PM4, 134 PM3, 135 PM2, 136 PM1, 137 PM0, 138 VSSX1, 139 VDDX1, 140 PK7, 141 PP7, 142 PP6, 143 PP5, 144 PP4

## MC9S12XEP100MAG_4
designator U?
CLASS: IC
pins: 1 PP3, 2 PP2, 3 PP1, 4 PP0, 5 PJ2, 6 PK6, 7 PK3, 8 PK2, 9 PK1, 10 PK0, 11 PT0, 12 PT1, 13 PT2, 14 PT3, 15 VDDF, 16 VSS1, 17 PT4, 18 PT5, 19 PT6, 20 PT7, 21 PK5, 22 PK4, 23 PJ1, 24 PJ0, 25 BKGD, 26 VDDX4, 27 VSSX4, 28 PC0, 29 PC1, 30 PC2, 31 PC3, 32 PB0, 33 PB1, 34 PB2, 35 PB3, 36 PB4, 37 PB5, 38 PB6, 39 PB7, 40 PC4, 41 PC5, 42 PC6, 43 PC7, 44 PH7, 45 PH6, 46 PH5, 47 PH4, 48 PE7, 49 PE6, 50 PE5, 51 PE4, 52 VSSX2, 53 VDDX2, 54 ~{RESET}, 55 VDDR, 56 VSS3, 57 VSSPLL, 58 EXTAL, 59 XTAL, 60 VDDPLL, 61 PH3, 62 PH2, 63 PH1, 64 PH0, 65 PD0, 66 PD1, 67 PD2, 68 PD3, 69 PE3, 70 PE2, 71 PE1, 72 PE0, 73 PA0, 74 PA1, 75 PA2, 76 PA3, 77 PA4, 78 PA5, 79 PA6, 80 PA7, 81 VSSX3, 82 VDDX3, 83 PD4, 84 PD5, 85 PD6, 86 PD7, 87 VDD, 88 VSS2, 89 PAD00, 90 PAD08, 91 PAD01, 92 PAD09, 93 PAD02, 94 PAD10, 95 PAD03, 96 PAD11, 97 PAD04, 98 PAD12, 99 PAD05, 100 PAD13, 101 PAD06, 102 PAD14, 103 PAD07, 104 PAD15, 105 PAD16, 106 PAD17, 107 VDDA1, 108 VRH, 109 VRL, 110 VSSA1, 111 PAD18, 112 PAD19, 113 PAD20, 114 PAD21, 115 PAD22, 116 PAD23, 117 PM7, 118 PM6, 119 PS0, 120 PS1, 121 PS2, 122 PS3, 123 PS4, 124 PS5, 125 PS6, 126 PS7, 127 TEST, 128 PJ7, 129 PJ6, 130 PJ5, 131 PJ4, 132 PM5, 133 PM4, 134 PM3, 135 PM2, 136 PM1, 137 PM0, 138 VSSX1, 139 VDDX1, 140 PK7, 141 PP7, 142 PP6, 143 PP5, 144 PP4

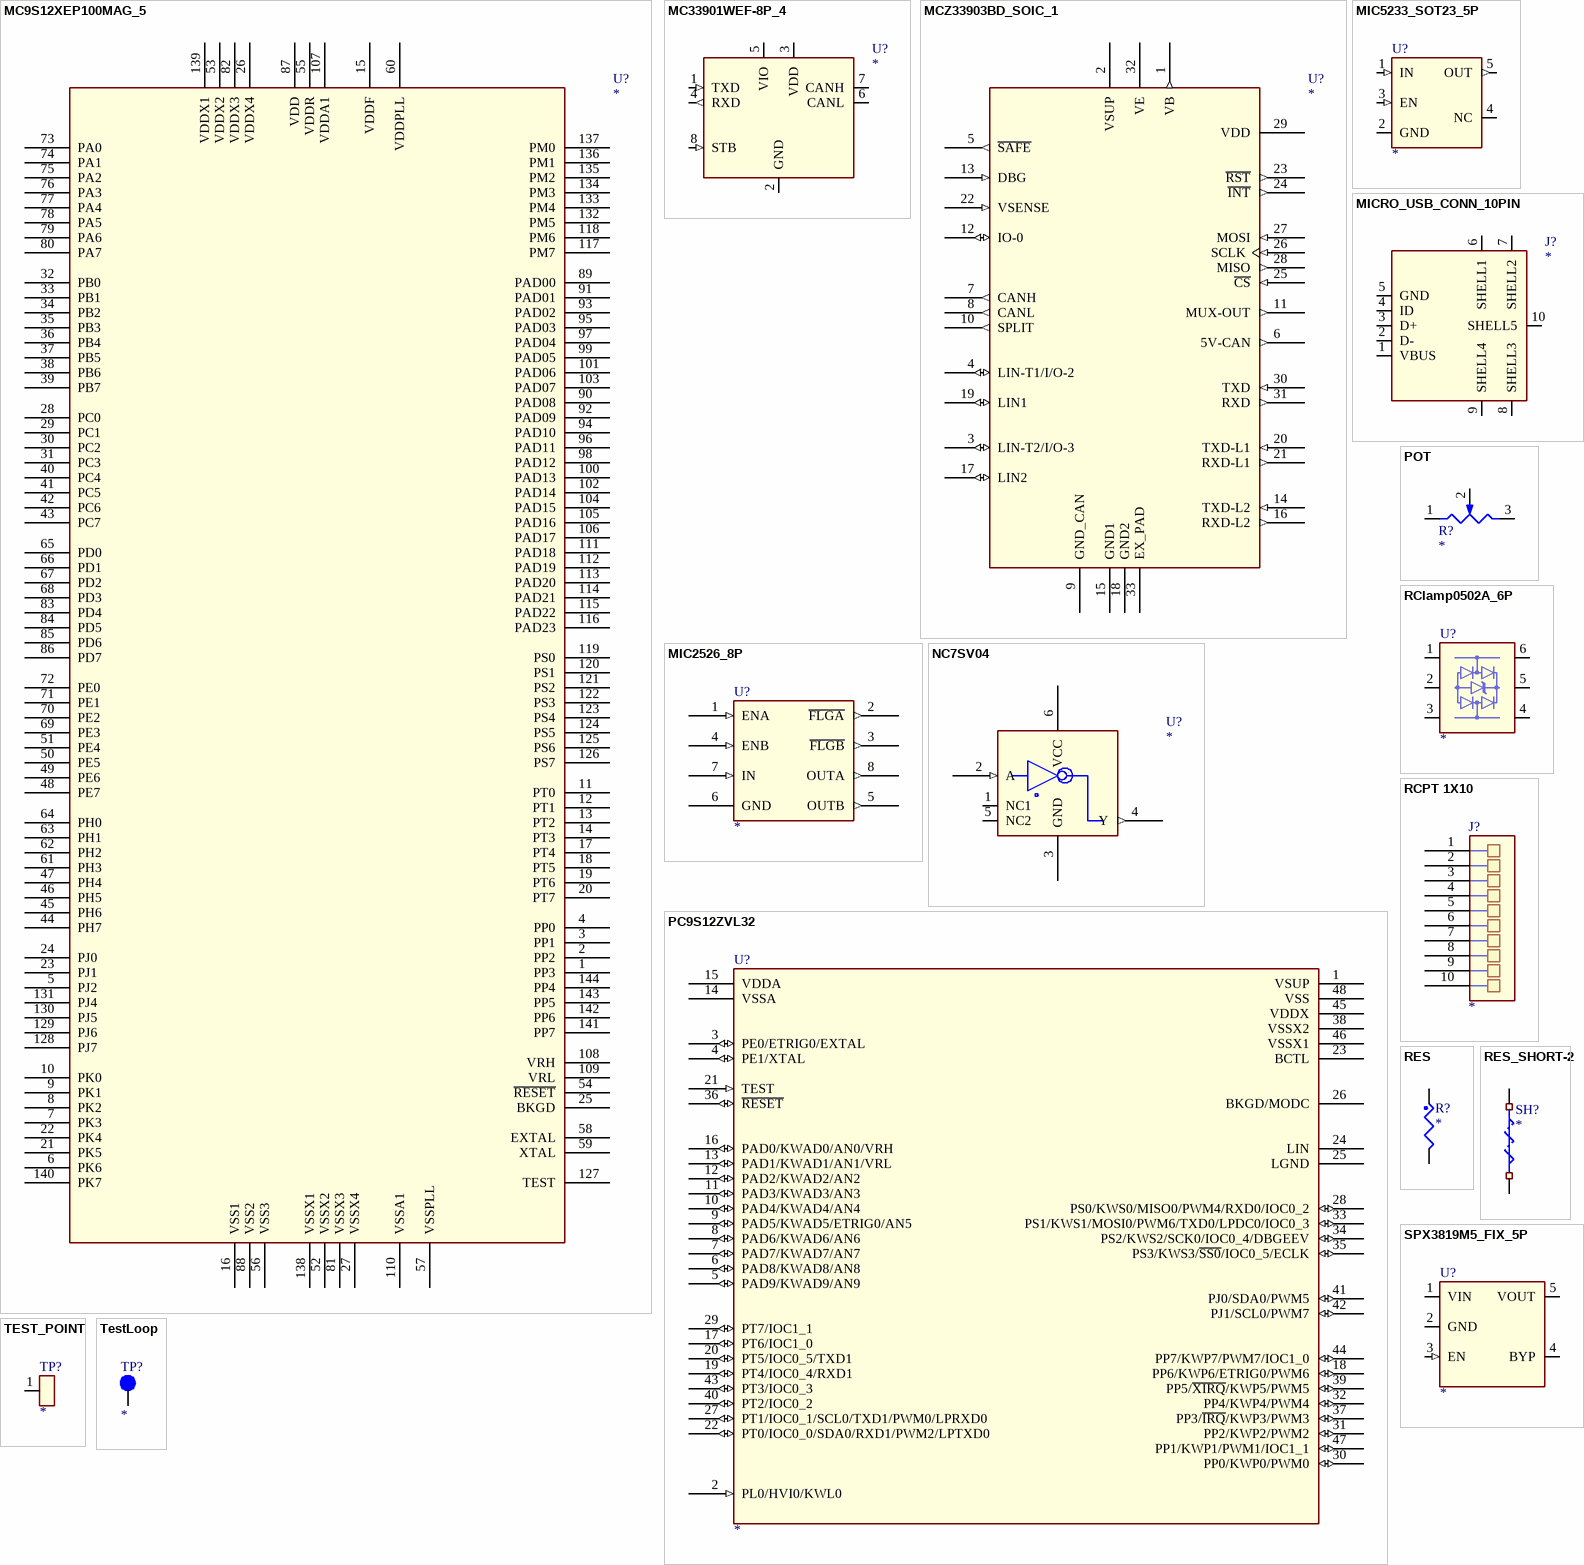
[diagram p6: symbols MC9S12XEP100MAG_5 to TestLoop]

## MC9S12XEP100MAG_5
designator U?
CLASS: IC
pins: 1 PP3, 2 PP2, 3 PP1, 4 PP0, 5 PJ2, 6 PK6, 7 PK3, 8 PK2, 9 PK1, 10 PK0, 11 PT0, 12 PT1, 13 PT2, 14 PT3, 15 VDDF, 16 VSS1, 17 PT4, 18 PT5, 19 PT6, 20 PT7, 21 PK5, 22 PK4, 23 PJ1, 24 PJ0, 25 BKGD, 26 VDDX4, 27 VSSX4, 28 PC0, 29 PC1, 30 PC2, 31 PC3, 32 PB0, 33 PB1, 34 PB2, 35 PB3, 36 PB4, 37 PB5, 38 PB6, 39 PB7, 40 PC4, 41 PC5, 42 PC6, 43 PC7, 44 PH7, 45 PH6, 46 PH5, 47 PH4, 48 PE7, 49 PE6, 50 PE5, 51 PE4, 52 VSSX2, 53 VDDX2, 54 ~{RESET}, 55 VDDR, 56 VSS3, 57 VSSPLL, 58 EXTAL, 59 XTAL, 60 VDDPLL, 61 PH3, 62 PH2, 63 PH1, 64 PH0, 65 PD0, 66 PD1, 67 PD2, 68 PD3, 69 PE3, 70 PE2, 71 PE1, 72 PE0, 73 PA0, 74 PA1, 75 PA2, 76 PA3, 77 PA4, 78 PA5, 79 PA6, 80 PA7, 81 VSSX3, 82 VDDX3, 83 PD4, 84 PD5, 85 PD6, 86 PD7, 87 VDD, 88 VSS2, 89 PAD00, 90 PAD08, 91 PAD01, 92 PAD09, 93 PAD02, 94 PAD10, 95 PAD03, 96 PAD11, 97 PAD04, 98 PAD12, 99 PAD05, 100 PAD13, 101 PAD06, 102 PAD14, 103 PAD07, 104 PAD15, 105 PAD16, 106 PAD17, 107 VDDA1, 108 VRH, 109 VRL, 110 VSSA1, 111 PAD18, 112 PAD19, 113 PAD20, 114 PAD21, 115 PAD22, 116 PAD23, 117 PM7, 118 PM6, 119 PS0, 120 PS1, 121 PS2, 122 PS3, 123 PS4, 124 PS5, 125 PS6, 126 PS7, 127 TEST, 128 PJ7, 129 PJ6, 130 PJ5, 131 PJ4, 132 PM5, 133 PM4, 134 PM3, 135 PM2, 136 PM1, 137 PM0, 138 VSSX1, 139 VDDX1, 140 PK7, 141 PP7, 142 PP6, 143 PP5, 144 PP4

## MC33901WEF-8P_4
designator U?
CLASS: IC
pins: 1 TXD (in), 2 GND (power), 3 VDD (power), 4 RXD (out), 5 VIO (power), 6 CANL (io), 7 CANH (io), 8 STB (in)

## MCZ33903BD_SOIC_1
designator U?
CLASS: IC
pins: 1 VB (out), 2 VSUP (power), 3 LIN-T2/I/O-3 (io), 4 LIN-T1/I/O-2 (io), 5 ~{SAFE} (out), 6 5V-CAN (out), 7 CANH (out), 8 CANL (out), 9 GND_CAN (power), 10 SPLIT (out), 11 MUX-OUT (out), 12 IO-0 (io), 13 DBG (in), 14 TXD-L2 (in), 15 GND1 (power), 16 RXD-L2 (out), 17 LIN2 (io), 18 GND2 (power), 19 LIN1 (io), 20 TXD-L1 (in), 21 RXD-L1 (out), 22 VSENSE (in), 23 ~{RST} (out), 24 ~{INT} (out), 25 ~{CS} (in), 26 SCLK (in), 27 MOSI (in), 28 MISO (out), 29 VDD (power), 30 TXD (in), 31 RXD (out), 32 VE, 33 EX_PAD (power)

## MIC2526_8P
designator U?
CLASS: IC
pins: 1 ENA (in), 2 ~{FLGA} (out), 3 ~{FLGB} (out), 4 ENB (in), 5 OUTB (out), 6 GND (power), 7 IN (in), 8 OUTA (out)

## MIC5233_SOT23_5P
designator U?
CLASS: IC
pins: 1 IN (in), 2 GND (power), 3 EN (in), 4 NC, 5 OUT (out)

## MICRO_USB_CONN_10PIN
designator J?
CLASS: IO
pins: 1 VBUS, 2 D-, 3 D+, 4 ID, 5 GND, 6 SHELL1, 7 SHELL2, 8 SHELL3, 9 SHELL4, 10 SHELL5

## NC7SV04
designator U?
CLASS: IC
pins: 1 NC1, 2 A (in), 3 GND (power), 4 Y (out), 5 NC2, 6 VCC (power)

## PC9S12ZVL32
designator U?
CLASS: IC
pins: 1 VSUP (power), 2 PL0/HVI0/KWL0 (in), 3 PE0/ETRIG0/EXTAL (io), 4 PE1/XTAL (io), 5 PAD9/KWAD9/AN9 (io), 6 PAD8/KWAD8/AN8 (io), 7 PAD7/KWAD7/AN7 (io), 8 PAD6/KWAD6/AN6 (io), 9 PAD5/KWAD5/ETRIG0/AN5 (io), 10 PAD4/KWAD4/AN4 (io), 11 PAD3/KWAD3/AN3 (io), 12 PAD2/KWAD2/AN2 (io), 13 PAD1/KWAD1/AN1/VRL (io), 14 VSSA (power), 15 VDDA (power), 16 PAD0/KWAD0/AN0/VRH (io), 17 PT6/IOC1_0 (io), 18 PP6/KWP6/ETRIG0/PWM6 (io), 19 PT4/IOC0_4/RXD1 (io), 20 PT5/IOC0_5/TXD1 (io), 21 TEST (in), 22 PT0/IOC0_0/SDA0/RXD1/PWM2/LPTXD0 (io), 23 BCTL, 24 LIN, 25 LGND (power), 26 BKGD/MODC, 27 PT1/IOC0_1/SCL0/TXD1/PWM0/LPRXD0 (io), 28 PS0/KWS0/MISO0/PWM4/RXD0/IOC0_2 (io), 29 PT7/IOC1_1 (io), 30 PP0/KWP0/PWM0 (io), 31 PP2/KWP2/PWM2 (io), 32 PP4/KWP4/PWM4 (io), 33 PS1/KWS1/MOSI0/PWM6/TXD0/LPDC0/IOC0_3 (io), 34 PS2/KWS2/SCK0/IOC0_4/DBGEEV (io), 35 PS3/KWS3/~{SS0}/IOC0_5/ECLK (io), 36 ~{RESET} (io), 37 PP3/~{IRQ}/KWP3/PWM3 (io), 38 VSSX2 (power), 39 PP5/~{XIRQ}/KWP5/PWM5 (io), 40 PT2/IOC0_2 (io), 41 PJ0/SDA0/PWM5 (io), 42 PJ1/SCL0/PWM7 (io), 43 PT3/IOC0_3 (io), 44 PP7/KWP7/PWM7/IOC1_0 (io), 45 VDDX (power), 46 VSSX1 (power), 47 PP1/KWP1/PWM1/IOC1_1 (io), 48 VSS (power)

## POT
designator R?
CLASS: DISCRETE
pins: 1 A, 2 WIPER, 3 B

## RClamp0502A_6P
designator U?
CLASS: IC
footprint SC-89
pins: 1 D+_PC (io), 2 GND (power), 3 D-_PC (io), 4 D- (io), 5 VCC (power), 6 D+ (io)

## RCPT 1X10
designator J?
pins: 1, 2, 3, 4, 5, 6, 7, 8, 9, 10

## RES
designator R?
CLASS: DISCRETE
pins: 1, 2

## RES_SHORT-2
designator SH?
CLASS: DISCRETE
pins: 1, 2

## SPX3819M5_FIX_5P
designator U?
CLASS: IC
pins: 1 VIN (power), 2 GND (power), 3 EN (in), 4 BYP, 5 VOUT (power)

## TEST_POINT
designator TP?
CLASS: IC
pins: 1

## TestLoop
designator TP?
CLASS: IO
pins: 1 Pin1

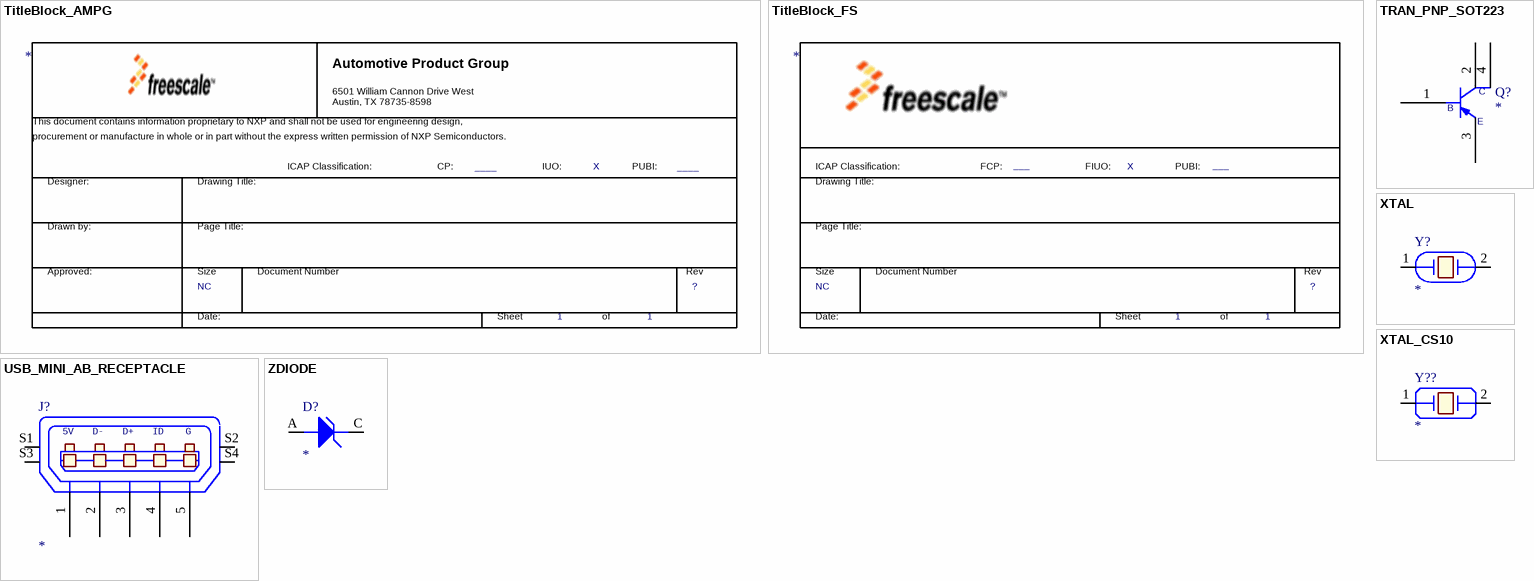
[diagram p7: symbols TitleBlock_AMPG to ZDIODE]

## TitleBlock_AMPG
designator *  FCP: ____  FIUO: X  Page Count: 1  Page Size: NC  (graphical)
PUBI: ____; Page Number: 1; RevCode: ?; Page Create Date: March  8, 1995
text: Automotive Product Group; 6501 William Cannon Drive West / Austin, TX 78735-8598; This document contains information proprietary to NXP and shall not be used for engineering design,; procurement or manufacture in whole or in part without the express written permission of NXP Semiconductors.; ICAP Classification:; CP:; IUO:; PUBI:; Designer:; Drawing Title:; Drawn by:; Page Title:; Approved:; Size; Document Number; Rev; Date:; Sheet; of

## TitleBlock_FS
designator *  FIUO: X  PUBI: ___  Page Size: NC  Page Number: 1  (graphical)
FCP: ___; Page Create Date: March  8, 1995; RevCode: ?; Page Count: 1
text: ICAP Classification:; FCP:; FIUO:; PUBI:; Drawing Title:; Page Title:; Size; Document Number; Rev; Date:; Sheet; of

## TRAN_PNP_SOT223
designator Q?
CLASS: IC
pins: 1 BASE, 2 COLLECTOR, 3 EMITTER, 4 COLLECTOR1
text: C; B; E

## USB_MINI_AB_RECEPTACLE
designator J?
CLASS: IO
pins: 1 P1, 2 P2, 3 P3, 4 P4, 5 P5, S1 SHLD1, S2 SHLD2, S3 SHLD3, S4 SHLD4
text: 5V; D-; D+; ID; G

## XTAL
designator Y?
CLASS: IC
pins: 1, 2

## XTAL_CS10
designator Y??
CLASS: IC
pins: 1, 2

## ZDIODE
designator D?
CLASS: IC
pins: A ANODE, C CATHODE